# Altium schematic symbol library LT3751EFE#TRPBF.Schlib: 1 symbol
Pins are listed as number, name and electrical type; pins without a type are passive.

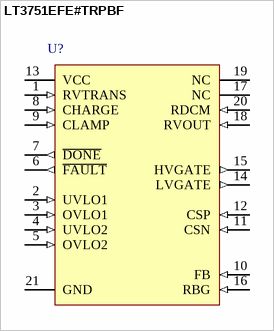
[diagram p0: symbol LT3751EFE#TRPBF]

## LT3751EFE#TRPBF
designator U?
pins: 1 RVTRANS (in), 2 UVLO1 (in), 3 OVLO1 (in), 4 UVLO2 (in), 5 OVLO2 (in), 6 ~{FAULT} (out), 7 ~{DONE} (out), 8 CHARGE (in), 9 CLAMP (in), 10 FB (in), 11 CSN (in), 12 CSP (in), 13 VCC (power), 14 LVGATE (out), 15 HVGATE (out), 16 RBG (in), 17 NC, 18 RVOUT (in), 19 NC, 20 RDCM (in), 21 GND (power)